# Altium footprint library pin_header.PcbLib: 4 footprints
Each footprint in its own frame and in the unit in brackets; x right, y up, seen from the top. Pads: shape width x height; smd on the part's side, far side on the other; paste and mask are expansions set on the pad; w line width, h text height; cw(c..) or ccw(c..) is an arc to the next point about the centre after c.
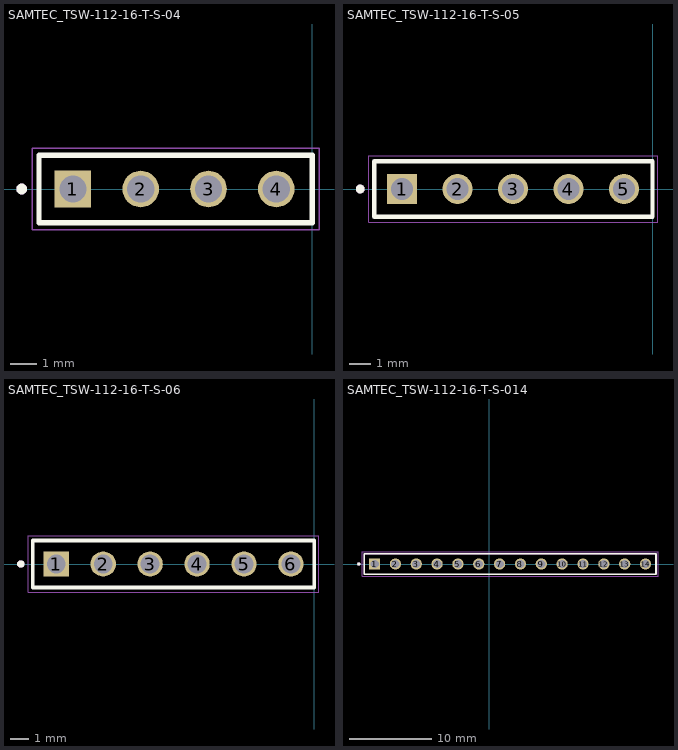
[diagram p0: the footprints below, top view; thin cyan lines are the x and y axes]

## SAMTEC_TSW-112-16-T-S-04 [mm]
pads (4):
  rect 1.37x1.37 hole 1.02: 1(-8.97,0)
  round 1.37 hole 1.02: 2(-6.43,0) 3(-3.89,0) 4(-1.35,0)
Top Overlay:
  circle w0.2: c-10.89,0 r0.1
  lines w0.2: -10.24,-1.27 -10.24,1.27 0,1.27 0,-1.27 -10.24,-1.27
Assembly Top:
  circle w0.2: c-10.89,0 r0.1
  lines w0.1: -10.24,-1.27 -10.24,1.27 ; -10.24,-1.27 0,-1.27 ; -10.24,-1.27 -10.24,1.27 ; -10.24,1.27 0,1.27 ; -10.24,1.27 0,1.27 ; 0,-1.27 0,1.27 ; 0,-1.27 0,1.27
Courtyard Top:
  lines w0.05: -10.49,-1.52 0.25,-1.52 0.25,1.52 -10.49,1.52 -10.49,-1.52

## SAMTEC_TSW-112-16-T-S-05 [mm]
pads (5):
  rect 1.37x1.37 hole 1.02: 1(-11.47,0)
  round 1.37 hole 1.02: 2(-8.93,0) 3(-6.39,0) 4(-3.85,0) 5(-1.31,0)
Top Overlay:
  circle w0.2: c-13.39,0 r0.1
  lines w0.2: -12.74,-1.27 0,-1.27 0,1.27 -12.74,1.27 -12.74,-1.27
Assembly Top:
  circle w0.2: c-13.39,0 r0.1
  lines w0.1: -12.74,-1.27 -12.74,1.27 ; -12.74,-1.27 0,-1.27 ; -12.74,-1.27 -12.74,1.27 ; -12.74,1.27 0,1.27 ; -12.74,1.27 0,1.27 ; 0,-1.27 0,1.27 ; 0,-1.27 0,1.27
Courtyard Top:
  lines w0.05: -12.99,-1.52 -12.99,1.52 0.25,1.52 0.25,-1.52 -12.99,-1.52

## SAMTEC_TSW-112-16-T-S-06 [mm]
pads (6):
  rect 1.37x1.37 hole 1.02: 1(-13.97,0)
  round 1.37 hole 1.02: 2(-11.43,0) 3(-8.89,0) 4(-6.35,0) 5(-3.81,0) 6(-1.27,0)
Top Overlay:
  circle w0.2: c-15.89,0 r0.1
  lines w0.2: -15.24,-1.27 -15.24,1.27 0,1.27 0,-1.27 -15.24,-1.27
Assembly Top:
  circle w0.2: c-15.89,0 r0.1
  lines w0.1: -15.24,-1.27 -15.24,1.27 ; -15.24,-1.27 0,-1.27 ; -15.24,-1.27 -15.24,1.27 ; -15.24,1.27 0,1.27 ; -15.24,1.27 0,1.27 ; 0,-1.27 0,1.27 ; 0,-1.27 0,1.27
Courtyard Top:
  lines w0.05: -15.49,-1.52 -15.49,1.52 0.25,1.52 0.25,-1.52 -15.49,-1.52

## SAMTEC_TSW-112-16-T-S-014 [mm]
pads (14):
  rect 1.37x1.37 hole 1.02: 1(-13.97,0)
  round 1.37 hole 1.02: 2(-11.43,0) 3(-8.89,0) 4(-6.35,0) 5(-3.81,0) 6(-1.27,0) 7(1.27,0) 8(3.81,0) 9(6.35,0) 10(8.89,0) 11(11.43,0) 12(13.97,0) 13(16.51,0) 14(19.05,0)
Top Overlay:
  circle w0.2: c-15.89,0 r0.1
  lines w0.2: -15.24,-1.27 -15.24,1.27 20.32,1.27 20.32,-1.27 -15.24,-1.27
Assembly Top:
  circle w0.2: c-15.89,0 r0.1
  lines w0.1: 0,1.27 -15.24,1.27 ; -15.24,-1.27 -15.24,1.27 ; -15.24,-1.27 20.32,-1.27 ; -15.24,-1.27 -15.24,1.27 ; -15.24,1.27 20.32,1.27 ; 20.32,-1.27 20.32,1.27 ; 20.32,-1.27 20.32,1.27
Courtyard Top:
  lines w0.05: -15.49,-1.52 20.57,-1.52 20.57,1.52 -15.49,1.52 -15.49,-1.52